# Altium footprint library Test_Part_Footprints.PcbLib: 4 footprints
Each footprint in its own frame and in the unit in brackets; x right, y up, seen from the top. Pads: shape width x height; smd on the part's side, far side on the other; paste and mask are expansions set on the pad; w line width, h text height; cw(c..) or ccw(c..) is an arc to the next point about the centre after c.
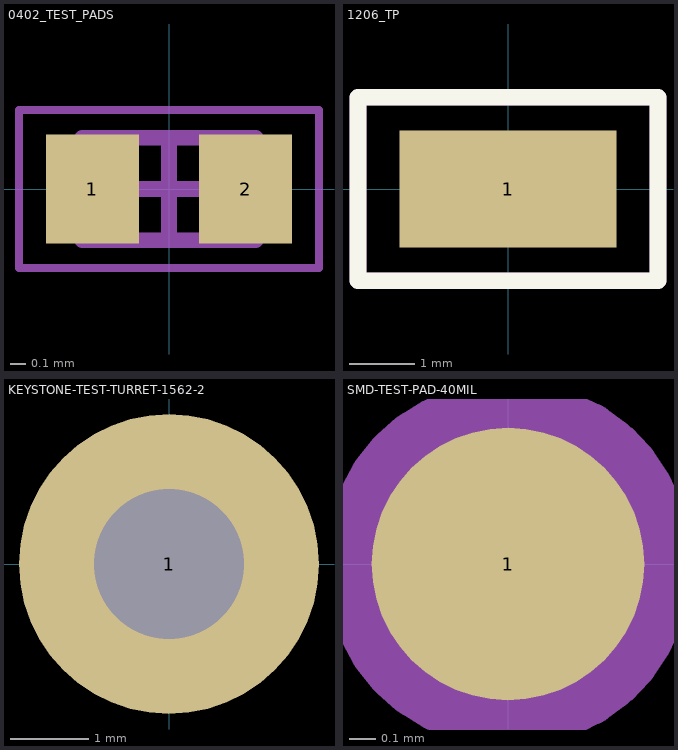
[diagram p0: the footprints below, top view; thin cyan lines are the x and y axes]

## 0402_TEST_PADS [mm] "0402, 2-Leads, Body No part shall be installed"
height 0.6
pads (2):
  rect 0.59x0.69 smd: 1(-0.485,0) 2(0.485,0)
Top Overlay:
  text ".Pcb_Label" at -0.762,-1.291 h0.64
Top Assembly (Mech4):
  lines w0.1: -0.55,-0.325 0.55,-0.325 0.55,0.325 -0.55,0.325 -0.55,-0.325
  text ".Pcb_Label" at -0.762,-1.418 h0.64
Mechanical 15:
  lines w0.05: -0.95,-0.5 0.95,-0.5 0.95,0.5 -0.95,0.5 -0.95,-0.5
  lines w0.1: -0.325,0 0.325,0 ; 0,-0.325 0,0.325

## 1206_TP [mil]
pads (1):
  rect 130x70 smd: 1(0,0)
Top Overlay:
  lines w10: -90,-55 -90,55 90,55 90,-55 -90,-55
  text ".Pcb_Label" at -75,-90.83 h25
Top Assembly (Mech4):
  lines w10: -90,-55 -90,55 90,55 90,-55 -90,-55
  text ".Pcb_Label" at -75,-95.83 h25

## KEYSTONE-TEST-TURRET-1562-2 [mil]
pads (1):
  round 150 hole 75: 1(0,0)
Top Overlay:
  text ".Pcb_Label" at -90,-105.83 h25
Bottom Overlay:
  text ".Pcb_Label" at 105,-100.83 h25
Top Assembly (Mech4):
  text ".Pcb_Label" at -85,-115.83 h25

## SMD-TEST-PAD-40MIL [mil] "SMD Test Pad, 40 mils"
height 23.62
pads (1):
  round 40 smd paste-99999: 1(0,0)
Top Overlay:
  text ".Pcb_Label" at -60,-65.83 h25
Top Assembly (Mech4):
  text ".Pcb_Label" at -55,-60.83 h25
Mechanical 15:
  circle w10: c0,0 r22
  lines w3.94: -12.8,0 12.8,0 ; 0,-12.8 0,12.8